# Altium footprint library SakuraInternet-sakura.io.PcbLib: 1 footprints
Each footprint in its own frame and in the unit in brackets; x right, y up, seen from the top. Pads: shape width x height; smd on the part's side, far side on the other; paste and mask are expansions set on the pad; w line width, h text height; cw(c..) or ccw(c..) is an arc to the next point about the centre after c.
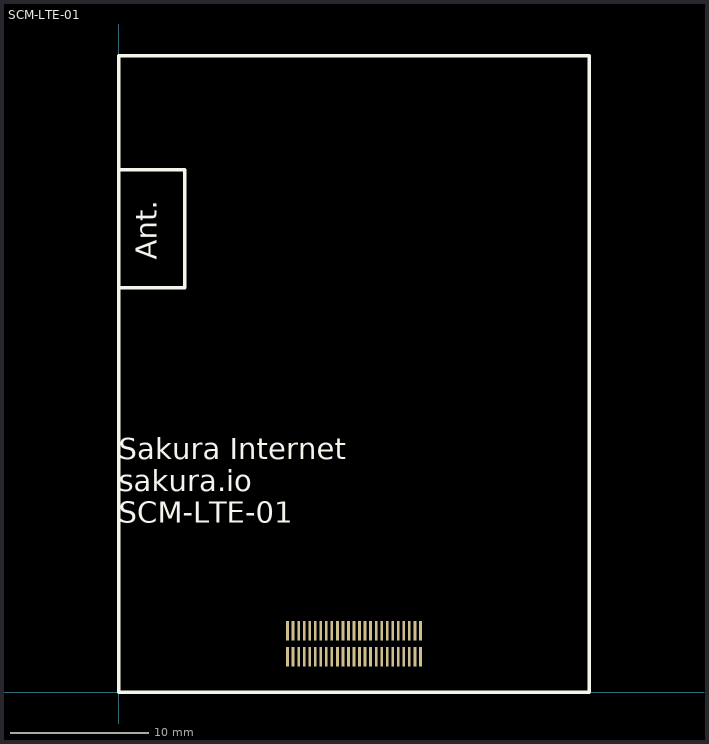
[diagram p0: the footprint, top view; thin cyan lines are the x and y axes]

## SCM-LTE-01 [mm]
pads (50):
  rect 0.2x1.43 smd paste-0.04: 1(12.2,4.445) 2(12.6,4.445) 3(13,4.445) 4(13.4,4.445) 5(13.8,4.445) 6(14.2,4.445) 7(14.6,4.445) 8(15,4.445) 9(15.4,4.445) 10(15.8,4.445) 11(16.2,4.445) 12(16.6,4.445) 13(17,4.445) 14(17.4,4.445) 15(17.8,4.445) 16(18.2,4.445) 17(18.6,4.445) 18(19,4.445) 19(19.4,4.445) 20(19.8,4.445) 21(20.2,4.445) 22(20.6,4.445) 23(21,4.445) 24(21.4,4.445) 25(21.8,4.445) 26(21.8,2.555) 27(21.4,2.555) 28(21,2.555) 29(20.6,2.555) 30(20.2,2.555) 31(19.8,2.555) 32(19.4,2.555) 33(19,2.555) 34(18.6,2.555) 35(18.2,2.555) 36(17.8,2.555) 37(17.4,2.555) 38(17,2.555) 39(16.6,2.555) 40(16.2,2.555) 41(15.8,2.555) 42(15.4,2.555) 43(15,2.555) 44(14.6,2.555) 45(14.2,2.555) 46(13.8,2.555) 47(13.4,2.555) 48(13,2.555) 49(12.6,2.555) 50(12.2,2.555)
Top Overlay:
  lines w0.254: 0,29.25 4.75,29.25 4.75,36 4.75,37.75 0,37.75 ; 0,0 34,0 34,46 0,46 0,0
  text "Ant." at 2.75,31.25 h1.52
  text "Sakura Internet / sakura.io / SCM-LTE-01" at 0,12.25 h1.52
3D body: height 11.18, standoff -1.42, extent 15.75,15 15.75,15
3D body: height 3.1, standoff 2.3, extent 0,0 34,46
3D body "DF40HC(2.5)-50DS.stp": height 2.39, standoff -0.01, extent 10.685,1.81 23.285,5.19
3D body: height 2.3, standoff 0, extent 7.25,24 32.25,44.25